# EAGLE library part NHD-2.7-12864WDY3 (library NHD-2.7-12864WDY3)
2.7 Yellow Graphic OLED - 128 x 64 pixels - 3.3V - 8-bit Parallel/3-wire SPI or 4-wire SPI - Controller:SSD1322 - 1 x 20 Top Source: Datasheet <http://www.newhavendisplay.com/specs/NHD-2.7-12864WDY3.pdf>
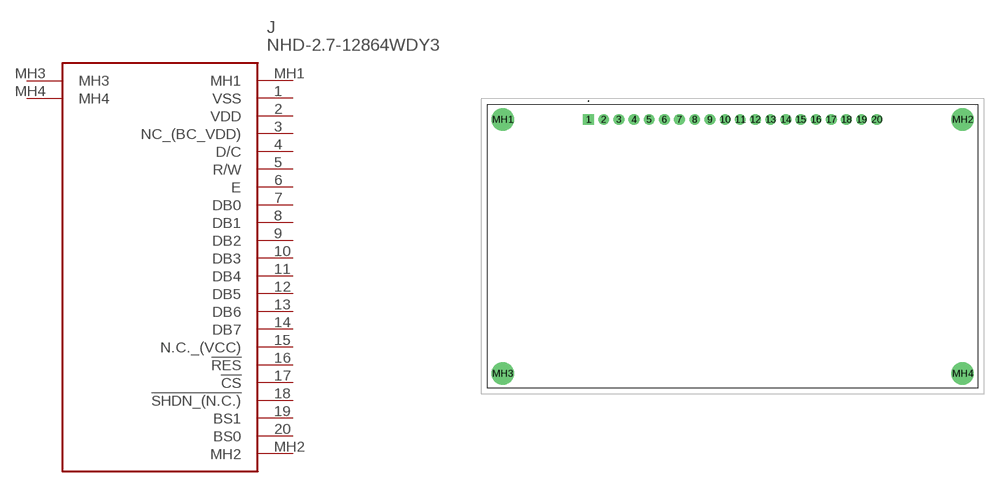
[diagram p0: symbol with the pads of NHD2712864WDY3; footprint NHD2712864WDY3]

Designator prefix J

## NHD-2.7-12864WDY3 (Description: 2.7 Yellow Graphic OLED - 128 x 64 pixels - 3.3V - 8-bit Parallel/3-wire SPI or 4-wire SPI - Controller:SSD1322 - 1 x 20 Top; Height: 3.4mm; Manufacturer_Name: Newhaven Display; Manufacturer_Part_Number: NHD-2.7-12864WDY3; Mouser_Part_Number: 763-NHD2712864WDY3; Mouser_Price-Stock: https://www.mouser.co.uk/ProductDetail/Newhaven-Display/NHD-27-12864WDY3?qs=HXFqYaX1Q2xb9z240q0YhA%3D%3D)  [NHD2712864WDY3]
1  VSS
2  VDD
3  NC_(BC_VDD)
4  D/C
5  R/W
6  E
7  DB0
8  DB1
9  DB2
10  DB3
11  DB4
12  DB5
13  DB6
14  DB7
15  N.C._(VCC)
16  !RES
17  !CS
18  !SHDN_(N.C.)
19  BS1
20  BS0
MH1  MH1
MH2  MH2
MH3  MH3
MH4  MH4

## Footprint NHD2712864WDY3 (pad centres in mm)
NHD-2.7-12864WDY3-1
drill 1.2 pad 1.8 square: 1 0,0
drill 1.2 pad 1.8: 2 2.54,0; 3 5.08,0; 4 7.62,0; 5 10.16,0; 6 12.7,0; 7 15.24,0; 8 17.78,0; 9 20.32,0; 10 22.86,0; 11 25.4,0; 12 27.94,0; 13 30.48,0; 14 33.02,0; 15 35.56,0; 16 38.1,0; 17 40.64,0; 18 43.18,0; 19 45.72,0; 20 48.26,0
drill 2.5 pad 3.75: MH1 -14.37,0; MH2 62.63,0; MH3 -14.37,-42.5; MH4 62.63,-42.5